# EAGLE library part BUSBAR (library dec-con)
Through hole bus bar
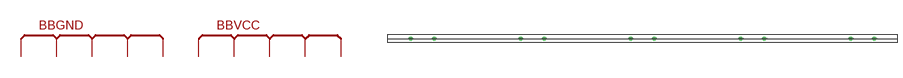
[diagram p71: symbol with the pads of BUSBAR; footprint BUSBAR]

Designator prefix BB; gates GND=BUSBAR VCC=BUSBAR

## BUSBAR  [BUSBAR]
GND1  GND:1  pas
GND2  GND:2  pas
GND3  GND:3  pas
GND4  GND:4  pas
GND5  GND:5  pas
VCC1  VCC:1  pas
VCC2  VCC:2  pas
VCC3  VCC:3  pas
VCC4  VCC:4  pas
VCC5  VCC:5  pas

## Footprint BUSBAR (pad centres in mm)
Through hole bus bar, 6.5" long.
drill 0.813 octagon: GND1 7.62,1.27; GND2 43.18,1.27; GND3 78.74,1.27; GND4 114.3,1.27; GND5 149.86,1.27; VCC1 15.24,1.27; VCC2 50.8,1.27; VCC3 86.36,1.27; VCC4 121.92,1.27; VCC5 157.48,1.27